# Altium footprint library PcbLib1.PcbLib: 7 footprints
Each footprint in its own frame and in the unit in brackets; x right, y up, seen from the top. Pads: shape width x height; smd on the part's side, far side on the other; paste and mask are expansions set on the pad; w line width, h text height; cw(c..) or ccw(c..) is an arc to the next point about the centre after c.
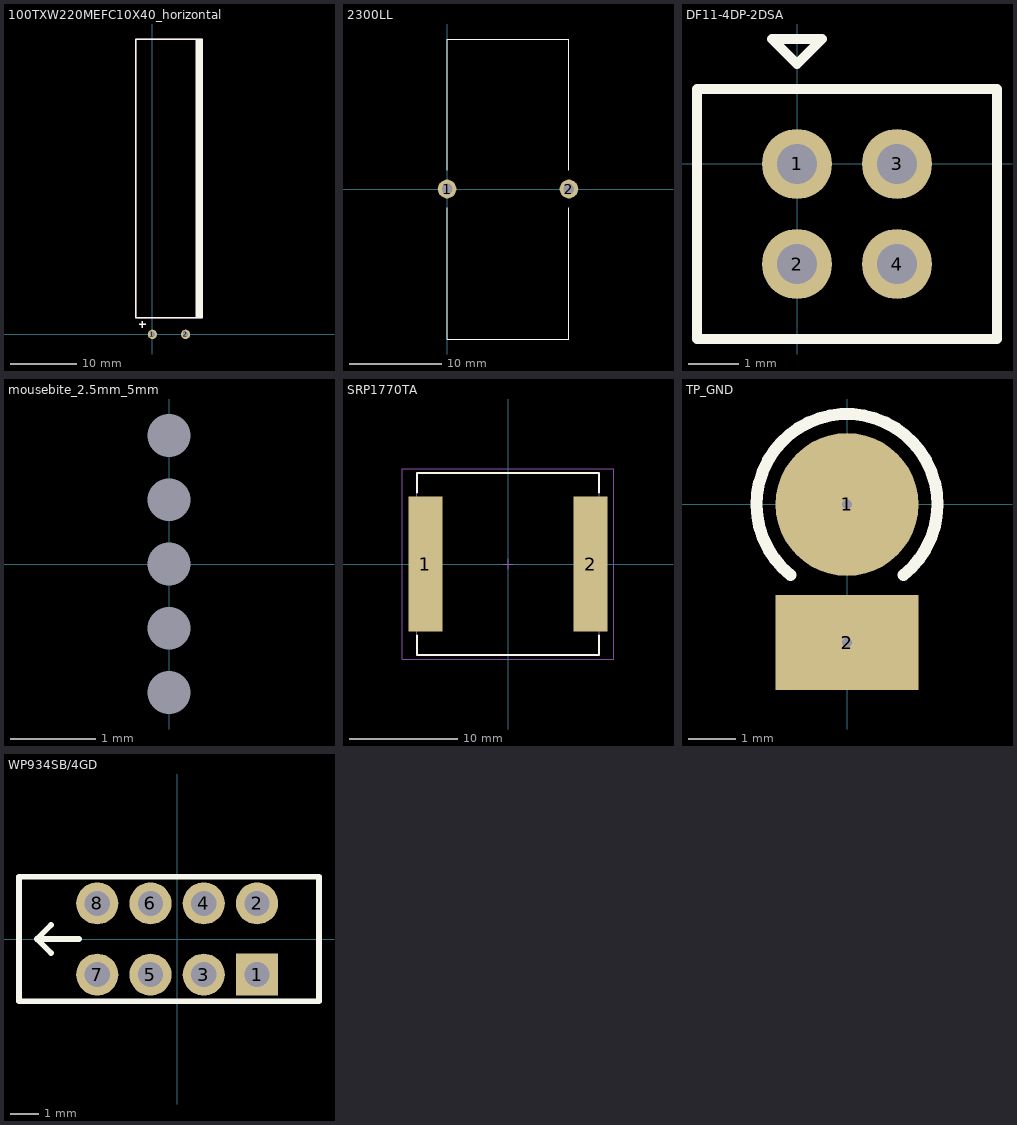
[diagram p0: the footprints below, top view; thin cyan lines are the x and y axes]

## 100TXW220MEFC10X40_horizontal [mm]
height 10
pads (2):
  round 1.4 hole 0.8: 1(0,0) 2(5,0)
Top Overlay:
  rectangle: 6.5,2.5 7.5,44.5
  lines w0.2: -2,1.5 -1,1.5 ; -1.5,1 -1.5,2 ; -2.5,2.5 7.5,2.5 7.5,44.5 -2.5,44.5 -2.5,2.5
Mechanical 15:
  lines w0.2: -2.5,2.5 7.5,2.5 7.5,44.5 -2.5,44.5 -2.5,2.5
3D body: height 10, standoff 0, extent -2.5,2.5 7.5,44.5

## 2300LL [mil]
pads (2):
  round 80 hole 45: 1(0,0) 2(520,0)
Top Overlay:
  lines w5: 0,-80 0,-640 520,-640 520,-80 ; 0,80 0,640 520,640 520,80
3D body "2300ll-102-v-rc.stp": height 1187, standoff -487, extent -14,-584 540,590

## DF11-4DP-2DSA [mm]
pads (4):
  round 1.4 hole 0.8: 1(0,0) 2(0,-2) 3(2,0) 4(2,-2)
Top Overlay:
  lines w0.2: -2,-3.5 4,-3.5 4,1.5 -2,1.5 -2,-3.5 ; -0.5,2.5 0,2 0.5,2.5 -0.5,2.5
3D body "DF11-4DP-2DSA.stp": height 6.5, standoff -3.1, extent -2,-3.5 4,1.5

## mousebite_2.5mm_5mm [mm]
pads (5):
  round 0 hole 0.5 unplated mask+0.102: 0(0,-1.5) 0(0,-0.75) 0(0,0) 0(0,0.75) 0(0,1.5)

## SRP1770TA [mm] "Precision Wire Wound Inductor, 2-Leads, Body 16.90x16.90mm, IPC Medium Density"
height 7
pads (2):
  rect 3.15x12.5 smd: 1(-7.675,0) 2(7.675,0)
Top Overlay:
  lines w0.2: -8.45,-6.65 -8.45,-8.45 8.45,-8.45 8.45,-6.65 ; -8.45,6.65 -8.45,8.45 8.45,8.45 8.45,6.65
Mechanical 13:
  lines w0.1: -8.45,-8.45 8.45,-8.45 8.45,8.45 -8.45,8.45 -8.45,-8.45
Mechanical 15:
  lines w0.05: -9.825,-8.85 9.825,-8.85 9.825,8.85 -9.825,8.85 -9.825,-8.85
  lines w0.1: -0.5,0 0.5,0 ; 0,-0.5 0,0.5
3D body: height 7, standoff 0, extent -8.45,-8.45 8.45,8.45

## TP_GND [mm]
pads (2):
  round 3 / inner round 0.457 / far side round 0.457 hole 0.203 paste-1.5 mask+0.102: 1(0,0)
  rect 3x2 / inner round 0.457 / far side round 0.457 hole 0.203 paste-1 mask+0.102: 2(0,-2.9)
Top Overlay:
  lines w0.254: -1.187,-1.484 cw(c0,0) 1.187,-1.484

## WP934SB/4GD [mm]
height 20.3
pads (8):
  rect 1.5x1.5 hole 0.9: 1(2.85,-1.27)
  round 1.5 hole 0.9: 2(2.85,1.27) 3(0.95,-1.27) 4(0.95,1.27) 5(-0.95,-1.27) 6(-0.95,1.27) 7(-2.85,-1.27) 8(-2.85,1.27)
Top Overlay:
  lines w0.2: -4.5,-0.5 -5,0 ; -4.5,0.5 -5,0 ; -3.5,0 -5,0 ; -5.64,-2.225 -5.64,2.225 5.06,2.225 5.06,-2.225 -5.64,-2.225
3D body: height 20.3, standoff 0, extent -5.64,-2.225 5.06,2.225